# Altium schematic symbol library STM32MP157C-FAB1.SchLib: 1 symbol
Pins are listed as number, name and electrical type; pins without a type are passive.

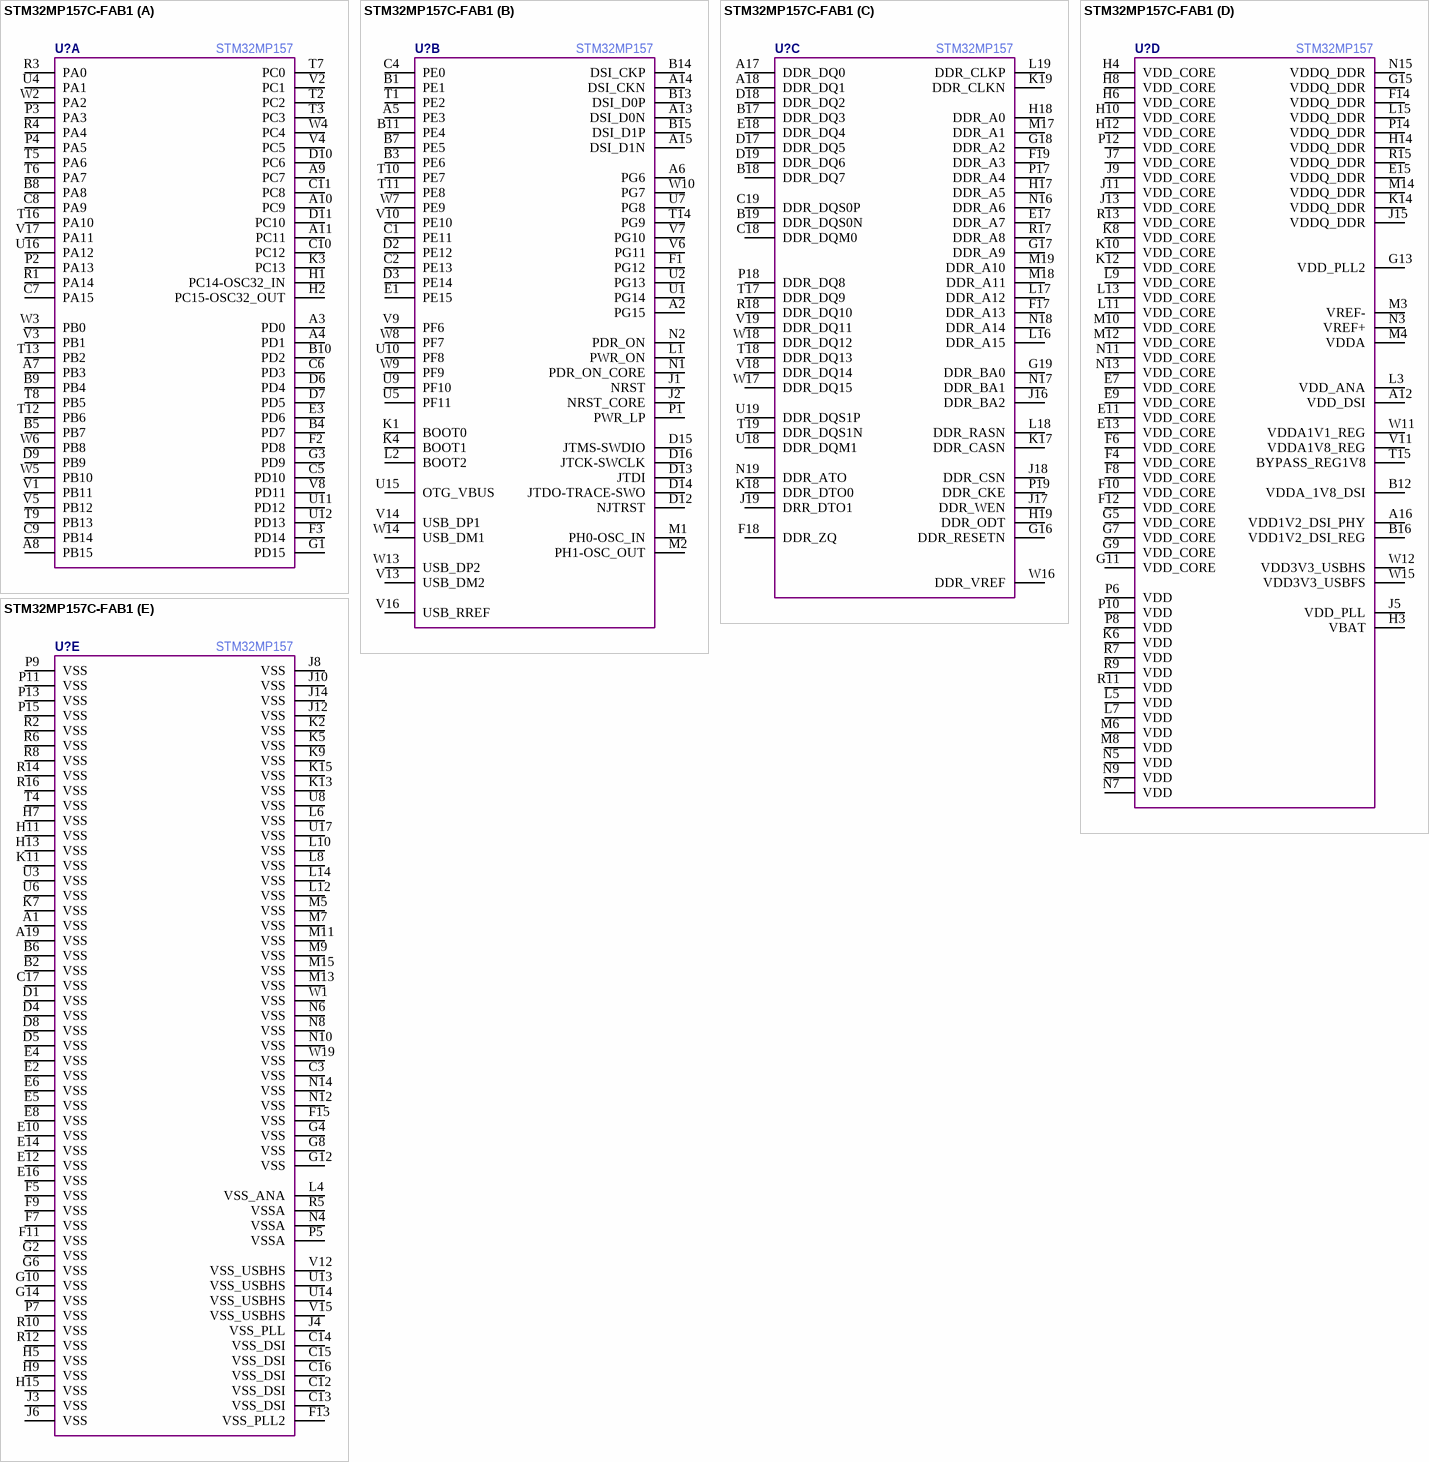
[diagram p0: symbol STM32MP157C-FAB1]

## STM32MP157C-FAB1
designator U?  Manufacturer Part Number: STM32MP157  (hidden comment: *)
part A pins: A3 PD0, A4 PD1, A7 PB3, A8 PB15, A9 PC7, A10 PC9, A11 PC11, B4 PD7, B5 PB7, B8 PA8, B9 PB4, B10 PD2, C5 PD10, C6 PD3, C7 PA15, C8 PA9, C9 PB14, C10 PC12, C11 PC8, D6 PD4, D7 PD5, D9 PB9, D10 PC6, D11 PC10, E3 PD6, F2 PD8, F3 PD14, G1 PD15, G3 PD9, H1 PC14-OSC32_IN, H2 PC15-OSC32_OUT, K3 PC13, P2 PA13, P3 PA3, P4 PA5, R1 PA14, R3 PA0, R4 PA4, T2 PC2, T3 PC3, T5 PA6, T6 PA7, T7 PC0, T8 PB5, T9 PB13, T12 PB6, T13 PB2, T16 PA10, U4 PA1, U11 PD12, U12 PD13, U16 PA12, V1 PB11, V2 PC1, V3 PB1, V4 PC5, V5 PB12, V8 PD11, V17 PA11, W2 PA2, W3 PB0, W4 PC4, W5 PB10, W6 PB8
part B pins: A2 PG15, A5 PE3, A6 PG6, A13 DSI_D0N, A14 DSI_CKN, A15 DSI_D1N, B1 PE1, B3 PE6, B7 PE5, B11 PE4, B13 DSI_D0P, B14 DSI_CKP, B15 DSI_D1P, C1 PE11, C2 PE13, C4 PE0, D2 PE12, D3 PE14, D12 NJTRST, D13 JTDI, D14 JTDO-TRACE-SWO, D15 JTMS-SWDIO, D16 JTCK-SWCLK, E1 PE15, F1 PG12, J1 NRST, J2 NRST_CORE, K1 BOOT0, K4 BOOT1, L1 PWR_ON, L2 BOOT2, M1 PH0-OSC_IN, M2 PH1-OSC_OUT, N1 PDR_ON_CORE, N2 PDR_ON, P1 PWR_LP, T1 PE2, T10 PE7, T11 PE8, T14 PG9, U1 PG14, U2 PG13, U5 PF11, U7 PG8, U9 PF10, U10 PF8, U15 OTG_VBUS, V6 PG11, V7 PG10, V9 PF6, V10 PE10, V13 USB_DM2, V14 USB_DP1, V16 USB_RREF, W7 PE9, W8 PF7, W9 PF9, W10 PG7, W13 USB_DP2, W14 USB_DM1
part C pins: A17 DDR_DQ0, A18 DDR_DQ1, B17 DDR_DQ3, B18 DDR_DQ7, B19 DDR_DQS0N, C18 DDR_DQM0, C19 DDR_DQS0P, D17 DDR_DQ5, D18 DDR_DQ2, D19 DDR_DQ6, E17 DDR_A7, E18 DDR_DQ4, F17 DDR_A13, F18 DDR_ZQ, F19 DDR_A3, G16 DDR_RESETN, G17 DDR_A9, G18 DDR_A2, G19 DDR_BA0, H17 DDR_A5, H18 DDR_A0, H19 DDR_ODT, J16 DDR_BA2, J17 DDR_WEN, J18 DDR_CSN, J19 DRR_DTO1, K17 DDR_CASN, K18 DDR_DTO0, K19 DDR_CLKN, L16 DDR_A15, L17 DDR_A12, L18 DDR_RASN, L19 DDR_CLKP, M17 DDR_A1, M18 DDR_A11, M19 DDR_A10, N16 DDR_A6, N17 DDR_BA1, N18 DDR_A14, N19 DDR_ATO, P17 DDR_A4, P18 DDR_DQ8, P19 DDR_CKE, R17 DDR_A8, R18 DDR_DQ10, T17 DDR_DQ9, T18 DDR_DQ13, T19 DDR_DQS1N, U18 DDR_DQM1, U19 DDR_DQS1P, V18 DDR_DQ14, V19 DDR_DQ11, W16 DDR_VREF, W17 DDR_DQ15, W18 DDR_DQ12
part D pins: A12 VDD_DSI, A16 VDD1V2_DSI_PHY, B12 VDDA_1V8_DSI, B16 VDD1V2_DSI_REG, E7 VDD_CORE, E9 VDD_CORE, E11 VDD_CORE, E13 VDD_CORE, E15 VDDQ_DDR, F4 VDD_CORE, F6 VDD_CORE, F8 VDD_CORE, F10 VDD_CORE, F12 VDD_CORE, F14 VDDQ_DDR, G5 VDD_CORE, G7 VDD_CORE, G9 VDD_CORE, G11 VDD_CORE, G13 VDD_PLL2, G15 VDDQ_DDR, H3 VBAT, H4 VDD_CORE, H6 VDD_CORE, H8 VDD_CORE, H10 VDD_CORE, H12 VDD_CORE, H14 VDDQ_DDR, J5 VDD_PLL, J7 VDD_CORE, J9 VDD_CORE, J11 VDD_CORE, J13 VDD_CORE, J15 VDDQ_DDR, K6 VDD, K8 VDD_CORE, K10 VDD_CORE, K12 VDD_CORE, K14 VDDQ_DDR, L3 VDD_ANA, L5 VDD, L7 VDD, L9 VDD_CORE, L11 VDD_CORE, L13 VDD_CORE, L15 VDDQ_DDR, M3 VREF-, M4 VDDA, M6 VDD, M8 VDD, M10 VDD_CORE, M12 VDD_CORE, M14 VDDQ_DDR, N3 VREF+, N5 VDD, N7 VDD, N9 VDD, N11 VDD_CORE, N13 VDD_CORE, N15 VDDQ_DDR, P6 VDD, P8 VDD, P10 VDD, P12 VDD_CORE, P14 VDDQ_DDR, R7 VDD, R9 VDD, R11 VDD, R13 VDD_CORE, R15 VDDQ_DDR, T15 BYPASS_REG1V8, V11 VDDA1V8_REG, W11 VDDA1V1_REG, W12 VDD3V3_USBHS, W15 VDD3V3_USBFS
part E pins: A1 VSS, A19 VSS, B2 VSS, B6 VSS, C3 VSS, C12 VSS_DSI, C13 VSS_DSI, C14 VSS_DSI, C15 VSS_DSI, C16 VSS_DSI, C17 VSS, D1 VSS, D4 VSS, D5 VSS, D8 VSS, E2 VSS, E4 VSS, E5 VSS, E6 VSS, E8 VSS, E10 VSS, E12 VSS, E14 VSS, E16 VSS, F5 VSS, F7 VSS, F9 VSS, F11 VSS, F13 VSS_PLL2, F15 VSS, G2 VSS, G4 VSS, G6 VSS, G8 VSS, G10 VSS, G12 VSS, G14 VSS, H5 VSS, H7 VSS, H9 VSS, H11 VSS, H13 VSS, H15 VSS, J3 VSS, J4 VSS_PLL, J6 VSS, J8 VSS, J10 VSS, J12 VSS, J14 VSS, K2 VSS, K5 VSS, K7 VSS, K9 VSS, K11 VSS, K13 VSS, K15 VSS, L4 VSS_ANA, L6 VSS, L8 VSS, L10 VSS, L12 VSS, L14 VSS, M5 VSS, M7 VSS, M9 VSS, M11 VSS, M13 VSS, M15 VSS, N4 VSSA, N6 VSS, N8 VSS, N10 VSS, N12 VSS, N14 VSS, P5 VSSA, P7 VSS, P9 VSS, P11 VSS, P13 VSS, P15 VSS, R2 VSS, R5 VSSA, R6 VSS, R8 VSS, R10 VSS, R12 VSS, R14 VSS, R16 VSS, T4 VSS, U3 VSS, U6 VSS, U8 VSS, U13 VSS_USBHS, U14 VSS_USBHS, U17 VSS, V12 VSS_USBHS, V15 VSS_USBHS, W1 VSS, W19 VSS